# EAGLE library part 750315039 (library WE-IBTI)
WE-IBTI Isolated Buck Transformers Characteristics Flybuck™ topology Operating Temp: -40°C to +125°C Excellent leakage inductance and interwinding capacitance performance Applications Industrial Programmable Logic Controllers (PLCs) Building automation and process control Isolated interface power: RS-422, RS-485, CAN, I2C, LAN Motor drive control, inverters and industrial automation Isolated low power drivers & regulators, smart e-meters Bias power supplies for gate drives and op-amps <https://www.we-online.com/components/media/o790826v209%20family-MID-IBTI.1673.jpg> Details see: www.we-online.com/en/components/products/WE-IBTI <www.we-online.com/catalog/WE-IBTI/?utm_source=eagle_model&utm_medium=description_link&utm_campaign=eisos_eagle> Created by Ella Wu 2024-06-07 2024 (C) Wurth Elektronik
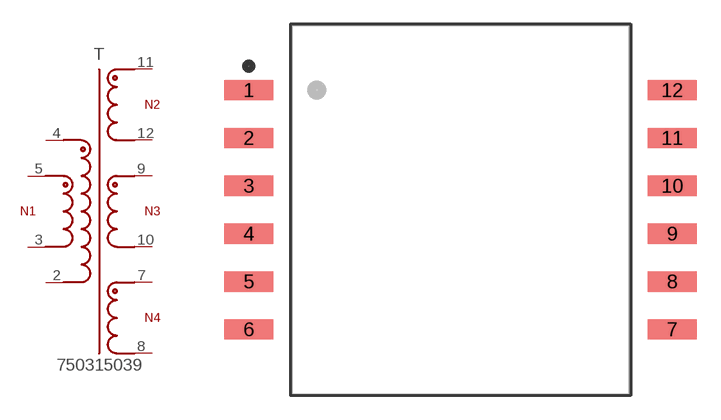
[diagram p7: symbol with the pads of WE-IBTI_EFD20_L23.11W29.08H11.43; footprint WE-IBTI_EFD20_L23.11W29.08H11.43]

Designator prefix T

## 750315039 (DATASHEET-URL: https://www.we-online.com/redexpert/spec/750315039?ae; FSWITCH: 250kHz; HEIGHT: 11.43mm; IOUT1: 1000mA; IOUT2: 200mA; IOUT3: 200mA; ISAT: 1.8A; L: 40uH; LENGTH: 23.11mm; LS: 300nH; MOUNT: SMT; N: 1.43:1:2.86:2.86; PART-NUMBER: 750315039; SIZE: EFD20; VALUE: 750315039; VBUCK: 7.65V; VIN: 19 - 30 V (DC); VOUT1: 5V; VOUT2: 15V; VOUT3: 15V; VT: 1500V(AC); WIDTH: 29.08mm)  [WE-IBTI_EFD20_L23.11W29.08H11.43]
2  2  pas
3  3  pas
4  4  pas
5  5  pas
7  7  pas
8  8  pas
9  9  pas
10  10  pas
11  11  pas
12  12  pas

## Footprint WE-IBTI_EFD20_L23.11W29.08H11.43 (pad centres in mm)
WE-IBTI Isolated Buck Transformers Size:EFD20,SMT,12pins LXWXH=23.11X29.08X11.43mm
smd 3.05 x 1.27: 1 -13.26,7.5; 2 -13.26,4.5; 3 -13.26,1.5; 4 -13.26,-1.5; 5 -13.26,-4.5; 6 -13.26,-7.5; 7 13.26,-7.5; 8 13.26,-4.5; 9 13.26,-1.5; 10 13.26,1.5; 11 13.26,4.5; 12 13.26,7.5